# EAGLE library part ATTINY85 (library TimeExpander)
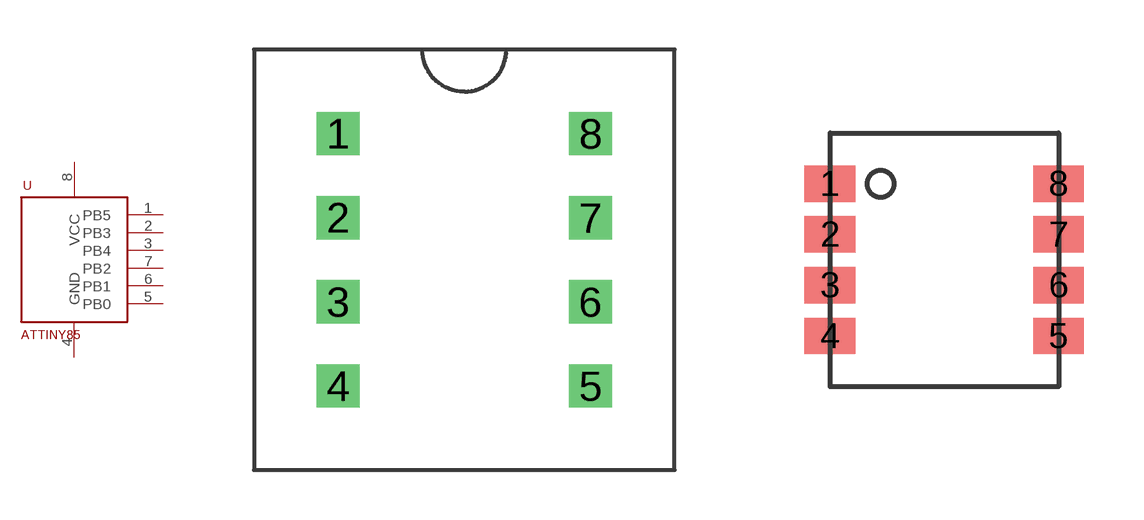
[diagram p12: symbol with the pads of DIP-8; footprints DIP-8, SOIC-8]

Designator prefix -

## ATTINY85DIP-8D (VALUE: DIP-8), ATTINY85SOIC-8D (VALUE: SOIC-8)  [DIP-8]
1  PB5
2  PB3
3  PB4
4  GND
5  PB0
6  PB1
7  PB2
8  VCC

## ATTINY85S  [SOIC-8]
Pads as for DIP-8

## Footprint DIP-8 (pad centres in mm)
drill 0.8 square: 1 0,7.62; 2 0,5.08; 3 0,2.54; 4 0,0; 5 7.62,0; 6 7.62,2.54; 7 7.62,5.08; 8 7.62,7.62

## Footprint SOIC-8 (pad centres in mm)
smd 1.27 x 0.91: 1 0,3.81; 2 0,2.54; 3 0,1.27; 4 0,0; 5 5.715,0; 6 5.715,1.27; 7 5.715,2.54; 8 5.715,3.81